# Altium footprint library TI.PcbLib: 20 footprints (part 2 of 2)
Each footprint in its own frame and in the unit in brackets; x right, y up, seen from the top. Pads: shape width x height; smd on the part's side, far side on the other; paste and mask are expansions set on the pad; w line width, h text height; cw(c..) or ccw(c..) is an arc to the next point about the centre after c.
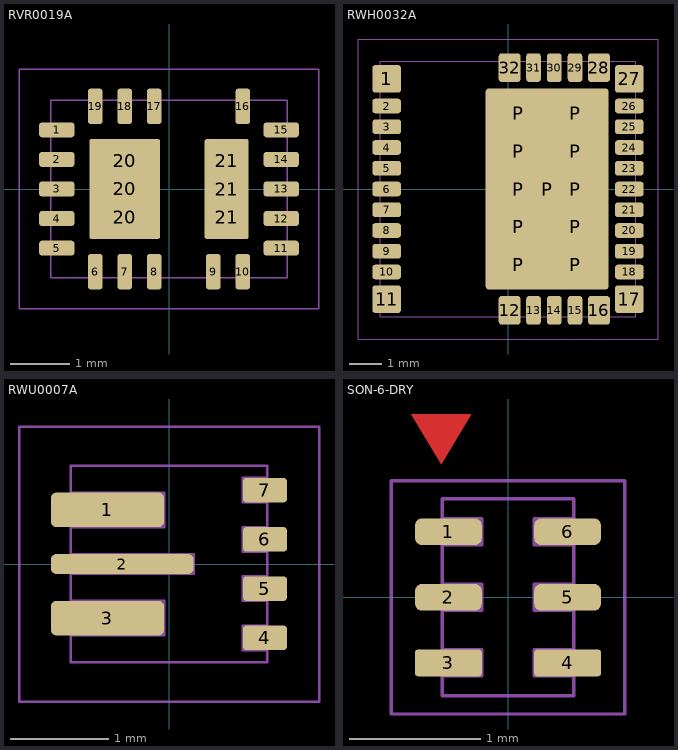
[diagram p1: the footprints below, top view; thin cyan lines are the x and y axes]

## RVR0019A [mm] "QFN, 19-Leads, Body 3x4mm, Pitch 0.5mm"
height 0.8
pads (25):
  rrect40% 0.6x0.25 smd mask+0.051: 1(-1.9,1) 2(-1.9,0.5) 3(-1.9,0) 4(-1.9,-0.5) 5(-1.9,-1) 11(1.9,-1) 12(1.9,-0.5) 13(1.9,0) 14(1.9,0.5) 15(1.9,1)
  rrect40% 0.25x0.6 smd mask+0.051: 6(-1.25,-1.4) 7(-0.75,-1.4) 8(-0.25,-1.4) 9(0.75,-1.4) 10(1.25,-1.4) 16(1.25,1.4) 17(-0.25,1.4) 18(-0.75,1.4) 19(-1.25,1.4)
  rrect50% 1.13x0.75 on Top Paste: 20(-0.75,-0.475) 20(-0.75,0.475)
  rrect8% 1.2x1.7 smd paste-1.7 mask+0.051: 20(-0.75,0)
  rrect50% 0.71x0.75 on Top Paste: 21(0.975,-0.475) 21(0.975,0.475)
  rrect13% 0.75x1.7 smd paste-1.7 mask+0.051: 21(0.975,0)
Top Solder:
  lines w0.127: -2.083,-1.397 -2.083,-1.583 -1.651,-1.583 ; -2.083,1.397 -2.083,1.583 -1.651,1.583 ; 1.651,-1.583 2.083,-1.583 2.083,-1.397 ; 1.651,1.583 2.083,1.583 2.083,1.397
Top Designator:
  text ".Designator" at -3.242,-0.317 h0.89
Top Courtyard:
  lines w0.025: -2.54,-2.032 2.54,-2.032 2.54,2.032 -2.54,2.032 -2.54,-2.032
Top Component Outline:
  lines w0.025: -2,-1.5 2,-1.5 2,1.5 -2,1.5 -2,-1.5
3D body "RVR0019A.stp": height 0.8, standoff 0, extent -2,-1.5 2,1.5

## RWH0032A [mm]
height 0.9
pads (43):
  rrect22% 0.9x0.864 smd paste-0.07 mask-0.038: 1(-3.8,3.45) 11(-3.8,-3.45) 17(3.8,-3.45) 27(3.8,3.45)
  rrect40% 0.9x0.457 smd paste-0.05 mask-0.038: 2(-3.8,2.6) 3(-3.8,1.95) 4(-3.8,1.3) 5(-3.8,0.65) 6(-3.8,0) 7(-3.8,-0.65) 8(-3.8,-1.3) 9(-3.8,-1.95) 10(-3.8,-2.6) 18(3.8,-2.6) 19(3.8,-1.95) 20(3.8,-1.3) 21(3.8,-0.65) 22(3.8,0) 23(3.8,0.65) 24(3.8,1.3) 25(3.8,1.95) 26(3.8,2.6)
  rrect29% 0.686x0.9 smd paste-0.05 mask-0.038: 12(0.05,-3.8) 16(2.85,-3.8) 28(2.85,3.8) 32(0.05,3.8)
  rrect40% 0.457x0.9 smd paste-0.05 mask-0.038: 13(0.8,-3.8) 14(1.45,-3.8) 15(2.1,-3.8) 29(2.1,3.8) 30(1.45,3.8) 31(0.8,3.8)
  rrect50% 1.6x0.99 on Top Paste: P(0.314,-2.38) P(0.314,-1.19) P(0.314,0) P(0.314,1.19) P(0.314,2.38) P(2.114,-2.38) P(2.114,-1.19) P(2.114,0) P(2.114,1.19) P(2.114,2.38)
  rrect5% 3.85x6.3 smd paste-2 mask-0.05: P(1.225,0)
Top Courtyard:
  lines w0.025: -4.699,-4.699 4.699,-4.699 4.699,4.699 -4.699,4.699 -4.699,-4.699
Top Component Outline:
  lines w0.025: -4,-4 4,-4 4,4 -4,4 -4,-4
3D body "RWH0032A.stp": height 0.9, standoff 0, extent -4,-4 4,4
3D body "RWH0032A.stp": height 0.9, standoff 0, extent -4,-4 4,4

## RWU0007A [mm]
pads (7):
  rrect30% 1.15x0.35 smd mask+0.038: 1(-0.625,0.55) 3(-0.625,-0.55)
  rrect50% 1.45x0.2 smd mask+0.038: 2(-0.475,0)
  rrect30% 0.45x0.25 smd mask+0.038: 4(0.975,-0.75) 5(0.975,-0.25) 6(0.975,0.25) 7(0.975,0.75)
Top Courtyard:
  lines w0.025: -1.524,-1.397 -1.524,1.397 1.524,1.397 1.524,-1.397 -1.524,-1.397
Top Component Outline:
  lines w0.025: 1,-0.875 0.75,-0.875 0.75,-0.625 1,-0.625 ; 1,-0.375 0.75,-0.375 0.75,-0.125 1,-0.125 ; 1,0.125 0.75,0.125 0.75,0.375 1,0.375 ; 1,0.625 0.75,0.625 0.75,0.875 1,0.875 ; -1,-1 1,-1 1,1 -1,1 -1,-1 ; -1,-0.725 -0.05,-0.725 -0.05,-0.375 -1,-0.375 -1,-0.725 ; -1,-0.1 0.25,-0.1 0.25,0.1 -1,0.1 -1,-0.1 ; -1,0.375 -0.05,0.375 -0.05,0.725 -1,0.725 -1,0.375
3D body: height 1, standoff 0.01, extent -1,-1 1,1

## SON-6-DRY [mil]
pads (6):
  rrect50% 20x8 smd mask+2: 1(-17.87,19.69) 2(-17.87,0) 5(17.87,0) 6(17.87,19.69)
  rrect20% 20x8 smd mask+2: 3(-17.87,-19.68) 4(17.87,-19.68)
Top Layer:
  region: -20,40 -11,55 -29,55
Top Courtyard:
  lines w1: -35,-35 -35,35 35,35 35,-35 -35,-35
Top Component Outline:
  lines w1: -19.68,-23.62 -7.87,-23.62 -7.87,-15.75 -19.68,-15.75 ; -19.68,-3.94 -7.87,-3.94 -7.87,3.94 -19.68,3.94 ; -19.68,15.75 -7.87,15.75 -7.87,23.62 -19.68,23.62 ; 19.68,-23.62 7.87,-23.62 7.87,-15.75 19.68,-15.75 ; 19.68,-3.94 7.87,-3.94 7.87,3.94 19.68,3.94 ; 19.68,15.75 7.87,15.75 7.87,23.62 19.68,23.62 ; -19.68,-29.53 19.68,-29.53 19.68,29.53 -19.68,29.53 -19.68,-29.53
3D body: height 22.83, standoff 0.39, extent -19.68,-29.53 19.68,29.53